# Altium footprint library Inductor_SMD.PcbLib: 1 footprints
Each footprint in its own frame and in the unit in brackets; x right, y up, seen from the top. Pads: shape width x height; smd on the part's side, far side on the other; paste and mask are expansions set on the pad; w line width, h text height; cw(c..) or ccw(c..) is an arc to the next point about the centre after c.
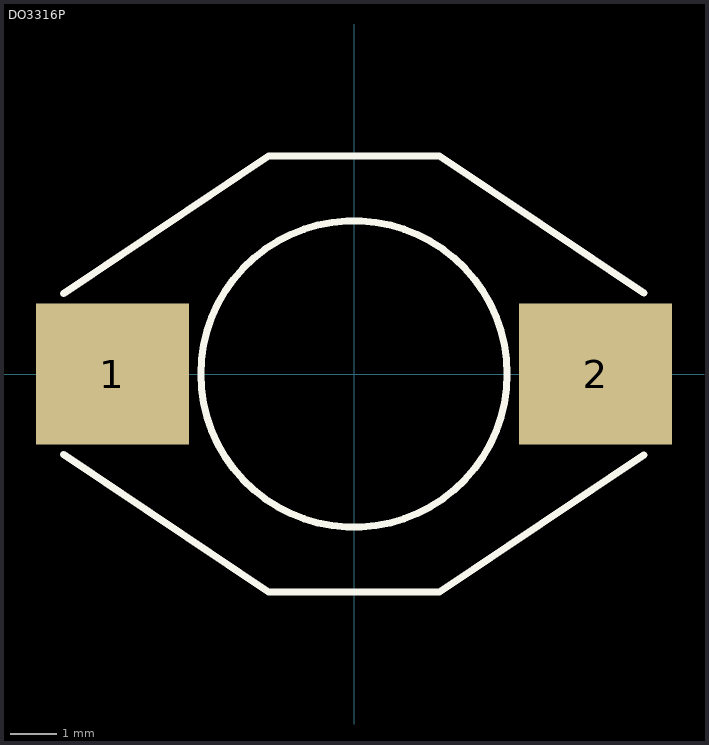
[diagram p0: the footprint, top view; thin cyan lines are the x and y axes]

## DO3316P [mil]
height 205
pads (2):
  rect 130x120 smd: 1(-205,0) 2(205,0)
Top Overlay:
  circle w6: c0,0 r130
  lines w6: -246.33,-68.32 -72.5,-185 72.5,-185 245.88,-68.62 ; -246.33,68.32 -72.5,185 72.5,185 245.93,68.59
3D body: height 203.15, standoff -1.97, extent -243.57,-185.04 243.56,185.04